# EAGLE library part 74LVC244APW,118 (library SamacSys_Parts)
74LVC(H)244A - Octal buffer/line driver; 3-state@en-us Source: Datasheet <https://assets.nexperia.com/documents/data-sheet/74LVC_LVCH244A.pdf>
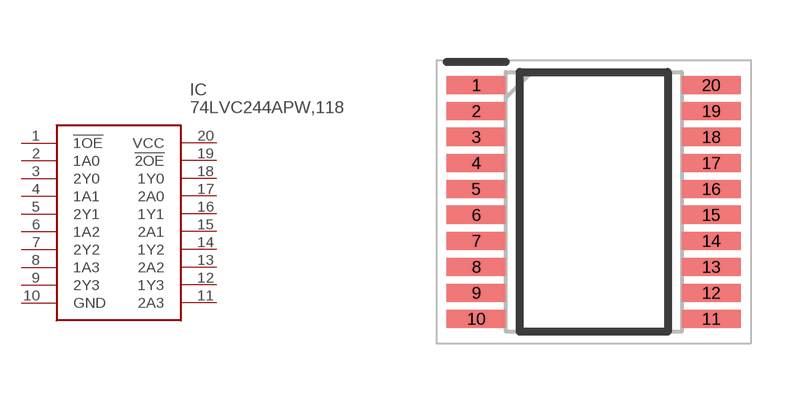
[diagram p152: symbol with the pads of SOP65P640X110-20N; footprint SOP65P640X110-20N]

Designator prefix IC

## 74LVC244APW,118 (DESCRIPTION: 74LVC(H)244A - Octal buffer/line driver; 3-state@en-us; HEIGHT: 1.1mm; MANUFACTURER_NAME: Nexperia; MANUFACTURER_PART_NUMBER: 74LVC244APW,118; MOUSER_PART_NUMBER: 771-74LVC244APW-T; MOUSER_PRICE-STOCK: https://www.mouser.co.uk/ProductDetail/Nexperia/74LVC244APW118?qs=me8TqzrmIYXA4kTVlk0VcA%3D%3D)  [SOP65P640X110-20N]
1  !1OE
2  1A0
3  2Y0
4  1A1
5  2Y1
6  1A2
7  2Y2
8  1A3
9  2Y3
10  GND
11  2A3
12  1Y3
13  2A2
14  1Y2
15  2A1
16  1Y1
17  2A0
18  1Y0
19  !2OE
20  VCC

## Footprint SOP65P640X110-20N (pad centres in mm)
SOT360-1
smd 1.475 x 0.45: 1 -2.938,2.925; 2 -2.938,2.275; 3 -2.938,1.625; 4 -2.938,0.975; 5 -2.938,0.325; 6 -2.938,-0.325; 7 -2.938,-0.975; 8 -2.938,-1.625; 9 -2.938,-2.275; 10 -2.938,-2.925; 11 2.938,-2.925; 12 2.938,-2.275; 13 2.938,-1.625; 14 2.938,-0.975; 15 2.938,-0.325; 16 2.938,0.325; 17 2.938,0.975; 18 2.938,1.625; 19 2.938,2.275; 20 2.938,2.925